# EAGLE library part RS348-526 (library reray_s)
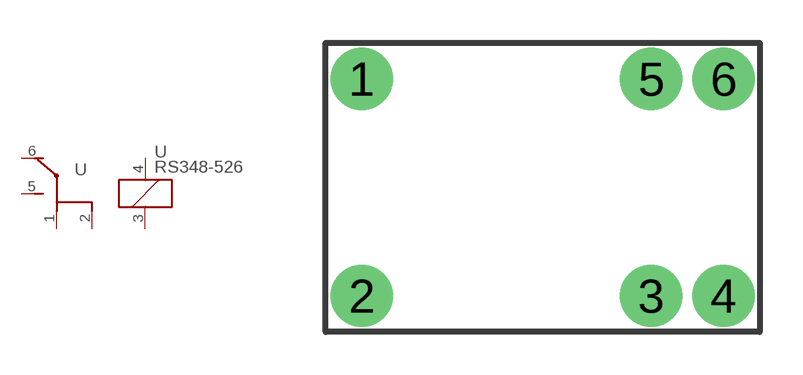
[diagram p0: symbol with the pads of RS348-526; footprint RS348-526]

Designator prefix -; gates G$1=K G$2=U2

## RS348-526  [RS348-526]
1  G$2:LP  pas
2  G$2:RP  pas
3  G$1:5  pas
4  G$1:2  pas
5  G$2:NO  pas
6  G$2:NC  pas

## Footprint RS348-526 (pad centres in mm)
drill 1 pad 2.184 round: 1 -5.08,2.54; 2 -5.08,-5.08; 3 5.08,-5.08; 4 7.62,-5.08; 5 5.08,2.54; 6 7.62,2.54